# EAGLE library part GSB3211311WEU (library EXCISS)
GSB3211311WEU USB-Stecker USB 3.0 Type B Recpt R/A Thru Hole Blue Links Datasheet <http://www.mouser.com/ds/2/18/N1005004435-515678.pdf>
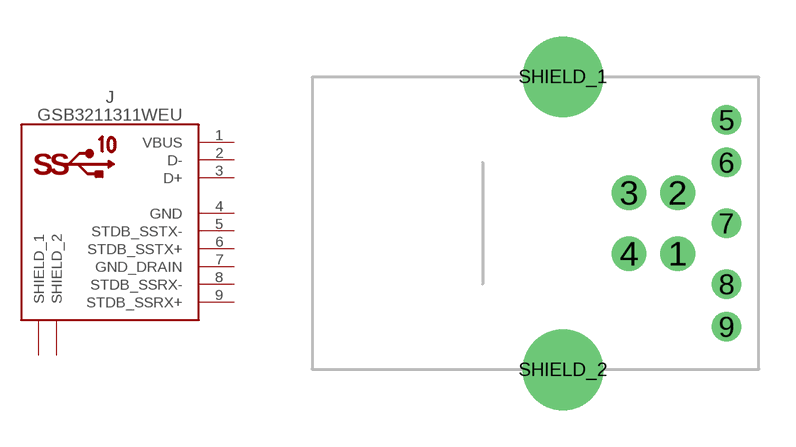
[diagram p5: symbol with the pads of GSB3211311WEU; footprint GSB3211311WEU]

Designator prefix J

## GSB3211311WEU (OC_MOUSER: 523-GSB3211311WEU)  [GSB3211311WEU]
1  VBUS
2  D-
3  D+
4  GND
5  STDB_SSTX-  out
6  STDB_SSTX+  out
7  GND_DRAIN
8  STDB_SSRX-  in
9  STDB_SSRX+  in
SHIELD_1  SHIELD_1  pas
SHIELD_2  SHIELD_2  pas

## Footprint GSB3211311WEU (pad centres in mm)
drill 0.92 pad 1.4: 1 13.26,62.675; 2 13.26,65.175; 3 11.26,65.175; 4 11.26,62.675
drill 0.7 pad 1.2: 5 15.26,68.175; 6 15.26,66.425; 7 15.26,63.925; 8 15.26,61.425; 9 15.26,59.675
drill 2.3 pad 3.3: SHIELD_1 8.55,69.945; SHIELD_2 8.55,57.905